# EAGLE library part G6K-2F-RF-DC3 (library G6K-2F-RF-DC3)
High Frequency / RF Relays 1GHz Std Grd NoLatch DPDT 3VDC 100mW Source: Datasheet <https://componentsearchengine.com/Datasheets/1/G6K-2F-RF-DC3.pdf>
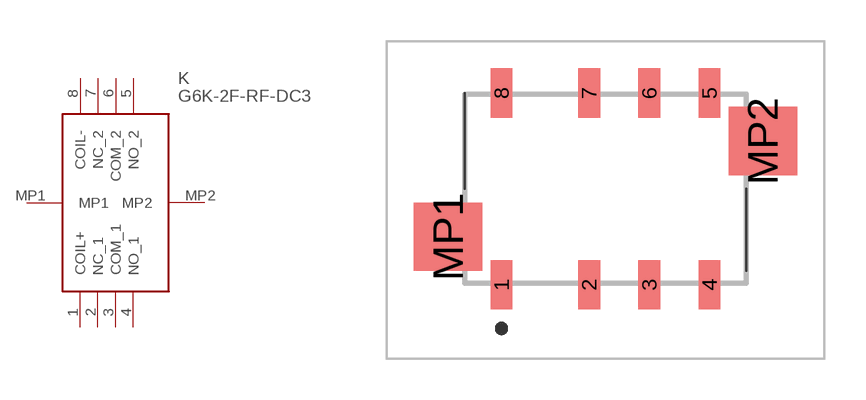
[diagram p0: symbol with the pads of G6K2FRFDC3; footprint G6K2FRFDC3]

Designator prefix K

## G6K-2F-RF-DC3 (Description: High Frequency / RF Relays 1GHz Std Grd NoLatch DPDT 3VDC 100mW; Height: 5.7mm; Manufacturer_Name: Omron Electronics; Manufacturer_Part_Number: G6K-2F-RF-DC3; Mouser_Part_Number: 653-G6K-2F-RF-DC3; Mouser_Price-Stock: https://www.mouser.co.uk/ProductDetail/Omron-Electronics/G6K-2F-RF-DC3?qs=Pjd0UV7BHP8BL6Nr%252BzW3GA%3D%3D)  [G6K2FRFDC3]
1  COIL+
2  NC_1
3  COM_1
4  NO_1
5  NO_2
6  COM_2
7  NC_2
8  COIL-
MP1  MP1
MP2  MP2

## Footprint G6K2FRFDC3 (pad centres in mm)
G6K-2F-RF-DC3-2
smd 0.8 x 1.8: 1 -3.8,-3.5; 2 -0.6,-3.5; 3 1.6,-3.5; 4 3.8,-3.5; 5 3.8,3.5; 6 1.6,3.5; 7 -0.6,3.5; 8 -3.8,3.5
smd 2.5 x 2.5: MP1 -5.75,-1.75; MP2 5.75,1.75